# Altium footprint library sensors.PcbLib: 2 footprints
Each footprint in its own frame and in the unit in brackets; x right, y up, seen from the top. Pads: shape width x height; smd on the part's side, far side on the other; paste and mask are expansions set on the pad; w line width, h text height; cw(c..) or ccw(c..) is an arc to the next point about the centre after c.
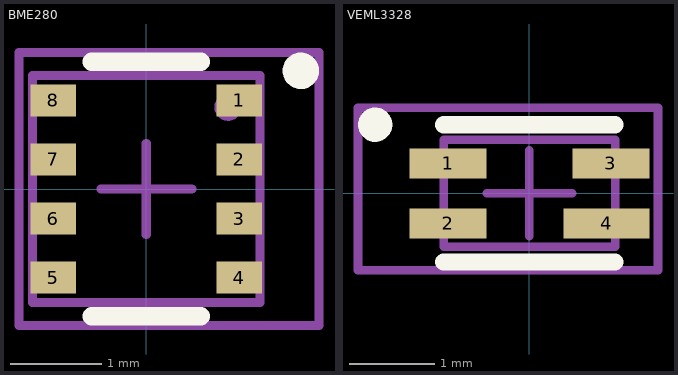
[diagram p0: the footprints below, top view; thin cyan lines are the x and y axes]

## BME280 [mm] "8-VFLGA 2.5x2.5"
height 1
pads (8):
  rect 0.5x0.35 smd: 1(1.025,0.975) 2(1.025,0.325) 3(1.025,-0.325) 4(1.025,-0.975) 5(-1.025,-0.975) 6(-1.025,-0.325) 7(-1.025,0.325) 8(-1.025,0.975)
Top Overlay:
  circle w0.2: c1.7,1.3 r0.1
  lines w0.2: -0.6,-1.4 0.6,-1.4 ; -0.6,1.4 0.6,1.4
Top Assembly:
  circle w0.1: c0.9,0.9 r0.1
  lines w0.1: -1.25,-1.25 -1.25,1.25 1.25,1.25 1.25,-1.25 -1.25,-1.25
Top Component Center:
  lines w0.1: -0.5,0 0.5,0 ; 0,-0.5 0,0.5
Top Component Outline:
  lines w0.1: -1.25,-1.25 -1.25,1.25 1.25,1.25 1.25,-1.25 -1.25,-1.25
Top Courtyard:
  lines w0.1: -1.4,-1.5 1.9,-1.5 1.9,1.5 -1.4,1.5 -1.4,-1.5
Top Designator:
  text "''.Designator''" at 0,0 h2.5
Top Value:
  text "''.Comment''" at 0,0 h2.5
3D body "BME280.STEP": height 0.93, standoff 0, extent -1.25,-1.25 1.25,1.25

## VEML3328 [mm] "4-SMD, No Lead"
height 1
pads (4):
  rect 0.9x0.35 smd: 1(-0.95,0.35) 2(-0.95,-0.35) 3(0.95,0.35)
  rect 1x0.35 smd: 4(0.9,-0.35)
Top Overlay:
  circle w0.2: c-1.8,0.8 r0.1
  lines w0.2: -1,-0.8 1,-0.8 ; -1,0.8 1,0.8
Top Assembly:
  lines w0.1: -1,-0.625 1,-0.625 1,0.625 -1,0.625 -1,-0.625
Top Component Center:
  lines w0.1: -0.5,0 0.5,0 ; 0,-0.5 0,0.5
Top Component Outline:
  lines w0.1: -1,-0.625 1,-0.625 1,0.625 -1,0.625 -1,-0.625
Top Courtyard:
  lines w0.1: -2,-0.9 -2,1 1.5,1 1.5,-0.9 -2,-0.9
Top Designator:
  text "''.Designator''" at 0,0 h2.5
Top Value:
  text "''.Comment''" at 0,0 h2.5
3D body "VEML3328_without_plastic.STEP": height 0.95, standoff 0, extent -1,-0.625 1,0.625
3D body "VEML3328_only_plastic.STEP": height 1.01, standoff 0.56, extent -1,-0.625 1,0.625